# Altium footprint library BASIC Library.PCBLIB: 464 footprints (part 19 of 30)
Each footprint in its own frame and in the unit in brackets; x right, y up, seen from the top. Pads: shape width x height; smd on the part's side, far side on the other; paste and mask are expansions set on the pad; w line width, h text height; cw(c..) or ccw(c..) is an arc to the next point about the centre after c.
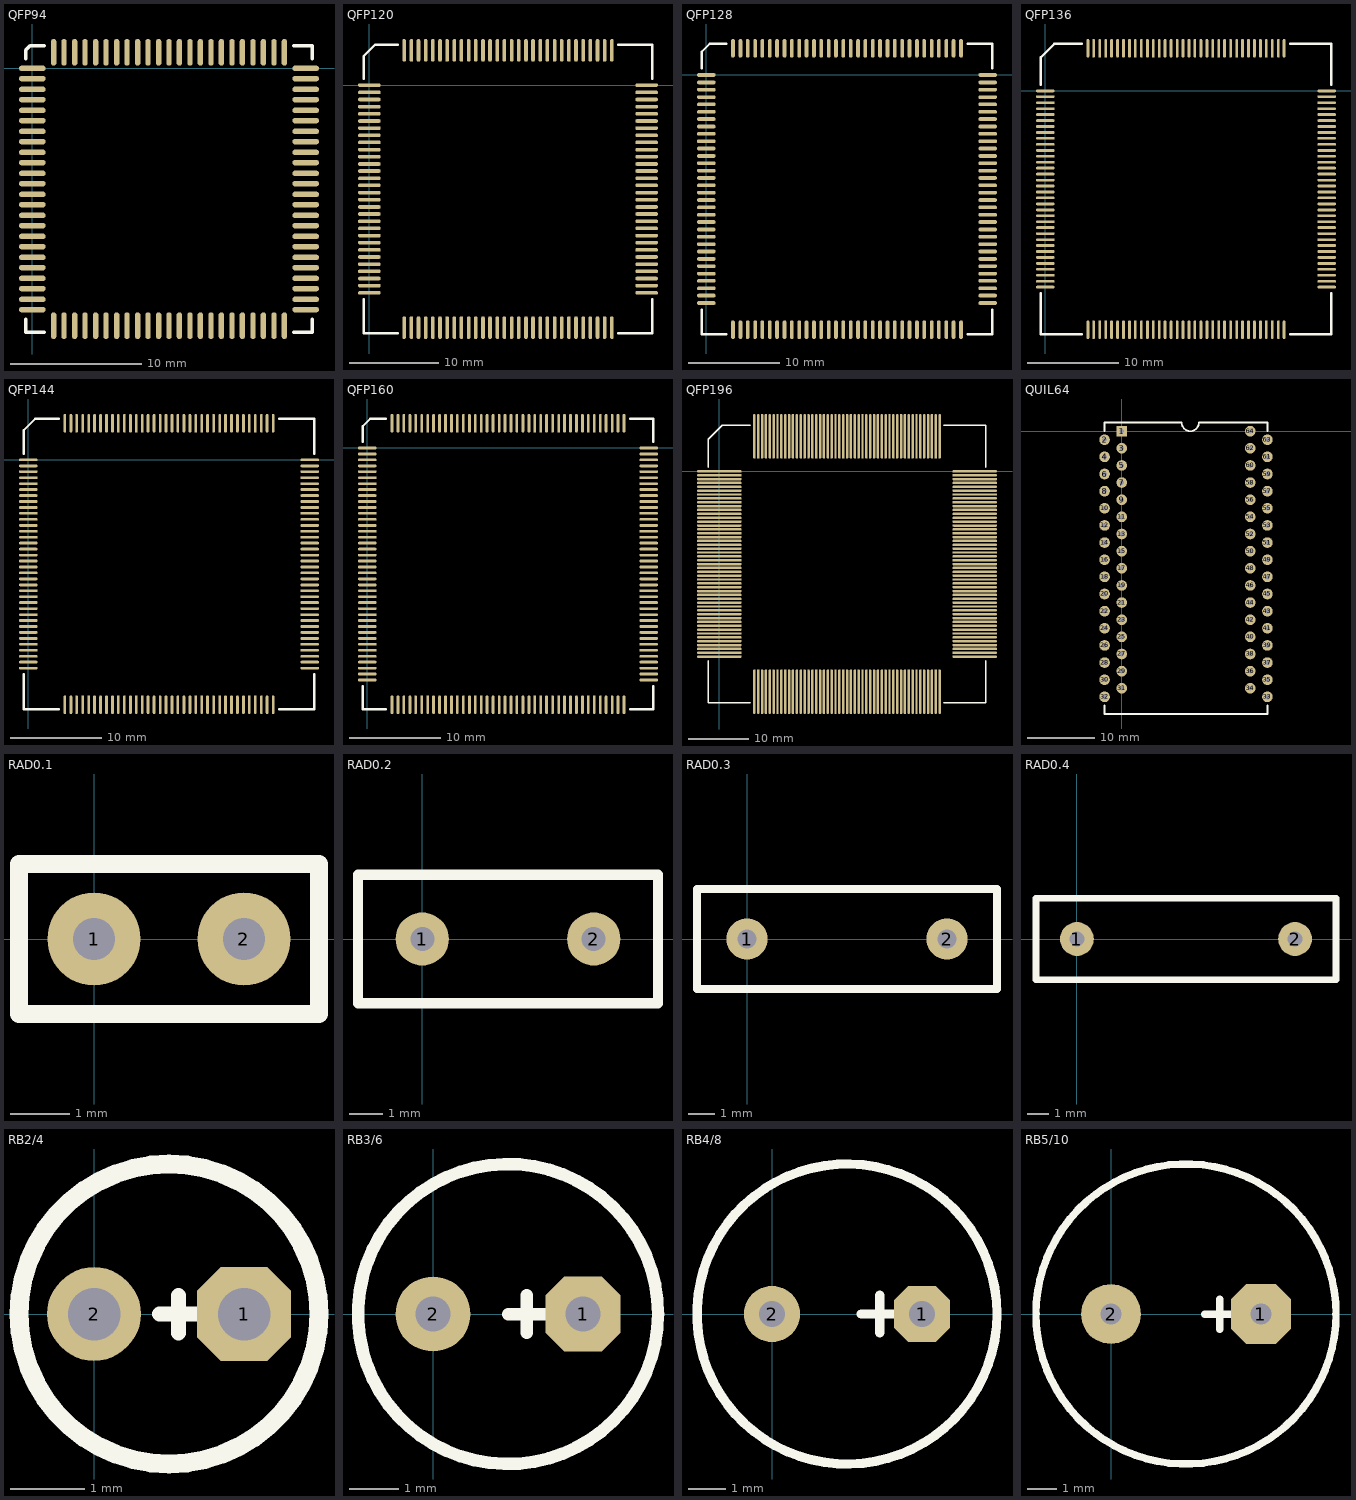
[diagram p18: the footprints below, top view; thin cyan lines are the x and y axes]

## QFP94 [mil]
pads (94):
  oval 80x16 smd: 1(0,0) 2(0,-31) 3(0,-63) 4(0,-94) 5(0,-126) 6(0,-157) 7(0,-189) 8(0,-220) 9(0,-252) 10(0,-283) 11(0,-315) 12(0,-346) 13(0,-378) 14(0,-409) 15(0,-441) 16(0,-472) 17(0,-504) 18(0,-535) 19(0,-567) 20(0,-598) 21(0,-630) 22(0,-661) 23(0,-693) 24(0,-724) 48(820,-724) 49(820,-693) 50(820,-661) 51(820,-630) 52(820,-598) 53(820,-567) 54(820,-535) 55(820,-504) 56(820,-472) 57(820,-441) 58(820,-409) 59(820,-378) 60(820,-346) 61(820,-315) 62(820,-283) 63(820,-252) 64(820,-220) 65(820,-189) 66(820,-157) 67(820,-126) 68(820,-94) 69(820,-63) 70(820,-31) 71(820,0)
  oval 16x80 smd: 25(64,-772) 26(95,-772) 27(127,-772) 28(158,-772) 29(190,-772) 30(221,-772) 31(253,-772) 32(284,-772) 33(316,-772) 34(347,-772) 35(379,-772) 36(410,-772) 37(441,-772) 38(473,-772) 39(504,-772) 40(536,-772) 41(567,-772) 42(599,-772) 43(630,-772) 44(662,-772) 45(693,-772) 46(725,-772) 47(756,-772) 72(756,48) 73(725,48) 74(693,48) 75(662,48) 76(630,48) 77(599,48) 78(567,48) 79(536,48) 80(504,48) 81(473,48) 82(441,48) 83(410,48) 84(379,48) 85(347,48) 86(316,48) 87(284,48) 88(253,48) 89(221,48) 90(190,48) 91(158,48) 92(127,48) 93(95,48) 94(64,48)
TopOverlay:
  lines w10: -20,-752 -20,-792 36,-792 ; -20,28 -20,55 -7,68 36,68 ; 784,-792 840,-792 840,-752 ; 784,68 840,68 840,28

## QFP120 [mil]
pads (120):
  oval 100x16 smd: 1(0,0) 2(0,-32) 3(0,-63) 4(0,-95) 5(0,-126) 6(0,-158) 7(0,-189) 8(0,-221) 9(0,-252) 10(0,-284) 11(0,-315) 12(0,-347) 13(0,-378) 14(0,-410) 15(0,-441) 16(0,-473) 17(0,-504) 18(0,-536) 19(0,-567) 20(0,-599) 21(0,-630) 22(0,-662) 23(0,-693) 24(0,-725) 25(0,-756) 26(0,-788) 27(0,-819) 28(0,-851) 29(0,-882) 30(0,-914) 61(1220,-914) 62(1220,-882) 63(1220,-851) 64(1220,-819) 65(1220,-788) 66(1220,-756) 67(1220,-725) 68(1220,-693) 69(1220,-662) 70(1220,-630) 71(1220,-599) 72(1220,-567) 73(1220,-536) 74(1220,-504) 75(1220,-473) 76(1220,-441) 77(1220,-410) 78(1220,-378) 79(1220,-347) 80(1220,-315) 81(1220,-284) 82(1220,-252) 83(1220,-221) 84(1220,-189) 85(1220,-158) 86(1220,-126) 87(1220,-95) 88(1220,-63) 89(1220,-32) 90(1220,0)
  oval 16x100 smd: 31(153,-1067) 32(185,-1067) 33(216,-1067) 34(248,-1067) 35(279,-1067) 36(311,-1067) 37(342,-1067) 38(374,-1067) 39(405,-1067) 40(437,-1067) 41(468,-1067) 42(500,-1067) 43(531,-1067) 44(563,-1067) 45(594,-1067) 46(626,-1067) 47(657,-1067) 48(689,-1067) 49(720,-1067) 50(752,-1067) 51(783,-1067) 52(815,-1067) 53(846,-1067) 54(878,-1067) 55(909,-1067) 56(941,-1067) 57(972,-1067) 58(1004,-1067) 59(1035,-1067) 60(1067,-1067) 91(1067,153) 92(1035,153) 93(1004,153) 94(972,153) 95(941,153) 96(909,153) 97(878,153) 98(846,153) 99(815,153) 100(783,153) 101(752,153) 102(720,153) 103(689,153) 104(657,153) 105(626,153) 106(594,153) 107(563,153) 108(531,153) 109(500,153) 110(468,153) 111(437,153) 112(405,153) 113(374,153) 114(342,153) 115(311,153) 116(279,153) 117(248,153) 118(216,153) 119(185,153) 120(153,153)
TopOverlay:
  lines w10: -25,-942 -25,-1092 125,-1092 ; -25,28 -25,128 25,178 125,178 ; 1095,-1092 1245,-1092 1245,-942 ; 1095,178 1245,178 1245,28

## QFP128 [mil]
pads (128):
  oval 80x16 smd: 1(0,0) 2(0,-32) 3(0,-63) 4(0,-95) 5(0,-126) 6(0,-158) 7(0,-189) 8(0,-221) 9(0,-252) 10(0,-284) 11(0,-315) 12(0,-347) 13(0,-378) 14(0,-410) 15(0,-441) 16(0,-473) 17(0,-504) 18(0,-536) 19(0,-567) 20(0,-599) 21(0,-630) 22(0,-662) 23(0,-693) 24(0,-725) 25(0,-756) 26(0,-788) 27(0,-819) 28(0,-851) 29(0,-882) 30(0,-914) 31(0,-945) 32(0,-977) 65(1205,-977) 66(1205,-945) 67(1205,-914) 68(1205,-882) 69(1205,-851) 70(1205,-819) 71(1205,-788) 72(1205,-756) 73(1205,-725) 74(1205,-693) 75(1205,-662) 76(1205,-630) 77(1205,-599) 78(1205,-567) 79(1205,-536) 80(1205,-504) 81(1205,-473) 82(1205,-441) 83(1205,-410) 84(1205,-378) 85(1205,-347) 86(1205,-315) 87(1205,-284) 88(1205,-252) 89(1205,-221) 90(1205,-189) 91(1205,-158) 92(1205,-126) 93(1205,-95) 94(1205,-63) 95(1205,-32) 96(1205,0)
  oval 16x80 smd: 33(114,-1091) 34(146,-1091) 35(177,-1091) 36(209,-1091) 37(240,-1091) 38(272,-1091) 39(303,-1091) 40(335,-1091) 41(366,-1091) 42(398,-1091) 43(429,-1091) 44(461,-1091) 45(492,-1091) 46(524,-1091) 47(555,-1091) 48(587,-1091) 49(618,-1091) 50(650,-1091) 51(681,-1091) 52(713,-1091) 53(744,-1091) 54(776,-1091) 55(807,-1091) 56(839,-1091) 57(870,-1091) 58(902,-1091) 59(933,-1091) 60(965,-1091) 61(996,-1091) 62(1028,-1091) 63(1059,-1091) 64(1091,-1091) 97(1091,114) 98(1059,114) 99(1028,114) 100(996,114) 101(965,114) 102(933,114) 103(902,114) 104(870,114) 105(839,114) 106(807,114) 107(776,114) 108(744,114) 109(713,114) 110(681,114) 111(650,114) 112(618,114) 113(587,114) 114(555,114) 115(524,114) 116(492,114) 117(461,114) 118(429,114) 119(398,114) 120(366,114) 121(335,114) 122(303,114) 123(272,114) 124(240,114) 125(209,114) 126(177,114) 127(146,114) 128(114,114)
TopOverlay:
  lines w10: -20,-1005 -20,-1111 86,-1111 ; -20,28 -20,99 15,134 86,134 ; 1119,-1111 1225,-1111 1225,-1005 ; 1119,134 1225,134 1225,28

## QFP136 [mil]
pads (136):
  oval 80x12 smd: 1(0,0) 2(0,-25) 3(0,-51) 4(0,-77) 5(0,-102) 6(0,-128) 7(0,-153) 8(0,-179) 9(0,-204) 10(0,-230) 11(0,-256) 12(0,-281) 13(0,-307) 14(0,-332) 15(0,-358) 16(0,-384) 17(0,-409) 18(0,-435) 19(0,-460) 20(0,-486) 21(0,-512) 22(0,-537) 23(0,-563) 24(0,-588) 25(0,-614) 26(0,-640) 27(0,-665) 28(0,-691) 29(0,-716) 30(0,-742) 31(0,-767) 32(0,-793) 33(0,-819) 34(0,-844) 69(1210,-844) 70(1210,-819) 71(1210,-793) 72(1210,-767) 73(1210,-742) 74(1210,-716) 75(1210,-691) 76(1210,-665) 77(1210,-640) 78(1210,-614) 79(1210,-588) 80(1210,-563) 81(1210,-537) 82(1210,-512) 83(1210,-486) 84(1210,-460) 85(1210,-435) 86(1210,-409) 87(1210,-384) 88(1210,-358) 89(1210,-332) 90(1210,-307) 91(1210,-281) 92(1210,-256) 93(1210,-230) 94(1210,-204) 95(1210,-179) 96(1210,-153) 97(1210,-128) 98(1210,-102) 99(1210,-77) 100(1210,-51) 101(1210,-25) 102(1210,0)
  oval 12x80 smd: 35(183,-1027) 36(208,-1027) 37(234,-1027) 38(260,-1027) 39(285,-1027) 40(311,-1027) 41(336,-1027) 42(362,-1027) 43(387,-1027) 44(413,-1027) 45(439,-1027) 46(464,-1027) 47(490,-1027) 48(515,-1027) 49(541,-1027) 50(567,-1027) 51(592,-1027) 52(618,-1027) 53(643,-1027) 54(669,-1027) 55(695,-1027) 56(720,-1027) 57(746,-1027) 58(771,-1027) 59(797,-1027) 60(823,-1027) 61(848,-1027) 62(874,-1027) 63(899,-1027) 64(925,-1027) 65(950,-1027) 66(976,-1027) 67(1002,-1027) 68(1027,-1027) 103(1027,183) 104(1002,183) 105(976,183) 106(950,183) 107(925,183) 108(899,183) 109(874,183) 110(848,183) 111(823,183) 112(797,183) 113(771,183) 114(746,183) 115(720,183) 116(695,183) 117(669,183) 118(643,183) 119(618,183) 120(592,183) 121(567,183) 122(541,183) 123(515,183) 124(490,183) 125(464,183) 126(439,183) 127(413,183) 128(387,183) 129(362,183) 130(336,183) 131(311,183) 132(285,183) 133(260,183) 134(234,183) 135(208,183) 136(183,183)
TopOverlay:
  lines w10: -20,-870 -20,-1047 157,-1047 ; -20,26 -20,144 39,203 157,203 ; 1053,-1047 1230,-1047 1230,-870 ; 1053,203 1230,203 1230,26

## QFP144 [mil]
pads (144):
  oval 80x12 smd: 1(0,0) 2(0,-26) 3(0,-51) 4(0,-77) 5(0,-103) 6(0,-128) 7(0,-154) 8(0,-179) 9(0,-205) 10(0,-230) 11(0,-256) 12(0,-282) 13(0,-307) 14(0,-333) 15(0,-358) 16(0,-384) 17(0,-410) 18(0,-435) 19(0,-461) 20(0,-486) 21(0,-512) 22(0,-538) 23(0,-563) 24(0,-589) 25(0,-614) 26(0,-640) 27(0,-666) 28(0,-691) 29(0,-717) 30(0,-742) 31(0,-768) 32(0,-793) 33(0,-819) 34(0,-845) 35(0,-870) 36(0,-896) 73(1210,-896) 74(1210,-870) 75(1210,-845) 76(1210,-819) 77(1210,-793) 78(1210,-768) 79(1210,-742) 80(1210,-717) 81(1210,-691) 82(1210,-666) 83(1210,-640) 84(1210,-614) 85(1210,-589) 86(1210,-563) 87(1210,-538) 88(1210,-512) 89(1210,-486) 90(1210,-461) 91(1210,-435) 92(1210,-410) 93(1210,-384) 94(1210,-358) 95(1210,-333) 96(1210,-307) 97(1210,-282) 98(1210,-256) 99(1210,-230) 100(1210,-205) 101(1210,-179) 102(1210,-154) 103(1210,-128) 104(1210,-103) 105(1210,-77) 106(1210,-51) 107(1210,-26) 108(1210,0)
  oval 12x80 smd: 37(157,-1053) 38(183,-1053) 39(208,-1053) 40(234,-1053) 41(260,-1053) 42(285,-1053) 43(311,-1053) 44(336,-1053) 45(362,-1053) 46(387,-1053) 47(413,-1053) 48(439,-1053) 49(464,-1053) 50(490,-1053) 51(515,-1053) 52(541,-1053) 53(567,-1053) 54(592,-1053) 55(618,-1053) 56(643,-1053) 57(669,-1053) 58(695,-1053) 59(720,-1053) 60(746,-1053) 61(771,-1053) 62(797,-1053) 63(823,-1053) 64(848,-1053) 65(874,-1053) 66(899,-1053) 67(925,-1053) 68(950,-1053) 69(976,-1053) 70(1002,-1053) 71(1027,-1053) 72(1053,-1053) 109(1053,157) 110(1027,157) 111(1002,157) 112(976,157) 113(950,157) 114(925,157) 115(899,157) 116(874,157) 117(848,157) 118(823,157) 119(797,157) 120(771,157) 121(746,157) 122(720,157) 123(695,157) 124(669,157) 125(643,157) 126(618,157) 127(592,157) 128(567,157) 129(541,157) 130(515,157) 131(490,157) 132(464,157) 133(439,157) 134(413,157) 135(387,157) 136(362,157) 137(336,157) 138(311,157) 139(285,157) 140(260,157) 141(234,157) 142(208,157) 143(183,157) 144(157,157)
TopOverlay:
  lines w10: -20,-922 -20,-1073 131,-1073 ; -20,26 -20,127 30,177 131,177 ; 1079,-1073 1230,-1073 1230,-922 ; 1079,177 1230,177 1230,26

## QFP160 [mil]
pads (160):
  oval 80x12 smd: 1(0,0) 2(0,-26) 3(0,-51) 4(0,-77) 5(0,-102) 6(0,-128) 7(0,-154) 8(0,-179) 9(0,-205) 10(0,-230) 11(0,-256) 12(0,-281) 13(0,-307) 14(0,-333) 15(0,-358) 16(0,-384) 17(0,-409) 18(0,-435) 19(0,-461) 20(0,-486) 21(0,-512) 22(0,-537) 23(0,-563) 24(0,-589) 25(0,-614) 26(0,-640) 27(0,-665) 28(0,-691) 29(0,-717) 30(0,-742) 31(0,-768) 32(0,-793) 33(0,-819) 34(0,-844) 35(0,-870) 36(0,-896) 37(0,-921) 38(0,-947) 39(0,-972) 40(0,-998) 81(1210,-998) 82(1210,-972) 83(1210,-947) 84(1210,-921) 85(1210,-896) 86(1210,-870) 87(1210,-844) 88(1210,-819) 89(1210,-793) 90(1210,-768) 91(1210,-742) 92(1210,-717) 93(1210,-691) 94(1210,-665) 95(1210,-640) 96(1210,-614) 97(1210,-589) 98(1210,-563) 99(1210,-537) 100(1210,-512) 101(1210,-486) 102(1210,-461) 103(1210,-435) 104(1210,-409) 105(1210,-384) 106(1210,-358) 107(1210,-333) 108(1210,-307) 109(1210,-281) 110(1210,-256) 111(1210,-230) 112(1210,-205) 113(1210,-179) 114(1210,-154) 115(1210,-128) 116(1210,-102) 117(1210,-77) 118(1210,-51) 119(1210,-26) 120(1210,0)
  oval 12x80 smd: 41(106,-1104) 42(132,-1104) 43(157,-1104) 44(183,-1104) 45(208,-1104) 46(234,-1104) 47(260,-1104) 48(285,-1104) 49(311,-1104) 50(336,-1104) 51(362,-1104) 52(387,-1104) 53(413,-1104) 54(439,-1104) 55(464,-1104) 56(490,-1104) 57(515,-1104) 58(541,-1104) 59(567,-1104) 60(592,-1104) 61(618,-1104) 62(643,-1104) 63(669,-1104) 64(695,-1104) 65(720,-1104) 66(746,-1104) 67(771,-1104) 68(797,-1104) 69(823,-1104) 70(848,-1104) 71(874,-1104) 72(899,-1104) 73(925,-1104) 74(950,-1104) 75(976,-1104) 76(1002,-1104) 77(1027,-1104) 78(1053,-1104) 79(1078,-1104) 80(1104,-1104) 121(1104,106) 122(1078,106) 123(1053,106) 124(1027,106) 125(1002,106) 126(976,106) 127(950,106) 128(925,106) 129(899,106) 130(874,106) 131(848,106) 132(823,106) 133(797,106) 134(771,106) 135(746,106) 136(720,106) 137(695,106) 138(669,106) 139(643,106) 140(618,106) 141(592,106) 142(567,106) 143(541,106) 144(515,106) 145(490,106) 146(464,106) 147(439,106) 148(413,106) 149(387,106) 150(362,106) 151(336,106) 152(311,106) 153(285,106) 154(260,106) 155(234,106) 156(208,106) 157(183,106) 158(157,106) 159(132,106) 160(106,106)
TopOverlay:
  lines w10: -20,-1024 -20,-1124 80,-1124 ; -20,26 -20,93 13,126 80,126 ; 1130,-1124 1230,-1124 1230,-1024 ; 1130,126 1230,126 1230,26

## QFP196 [mil]
pads (196):
  oval 290x16 smd: 1(0,0) 2(0,-25) 3(0,-50) 4(0,-75) 5(0,-100) 6(0,-125) 7(0,-150) 8(0,-175) 9(0,-200) 10(0,-225) 11(0,-250) 12(0,-275) 13(0,-301) 14(0,-326) 15(0,-351) 16(0,-376) 17(0,-401) 18(0,-426) 19(0,-451) 20(0,-476) 21(0,-501) 22(0,-526) 23(0,-551) 24(0,-576) 25(0,-601) 26(0,-626) 27(0,-651) 28(0,-676) 29(0,-701) 30(0,-726) 31(0,-751) 32(0,-776) 33(0,-801) 34(0,-826) 35(0,-851) 36(0,-876) 37(0,-901) 38(0,-926) 39(0,-951) 40(0,-976) 41(0,-1001) 42(0,-1026) 43(0,-1051) 44(0,-1076) 45(0,-1101) 46(0,-1126) 47(0,-1151) 48(0,-1176) 49(0,-1201) 99(1655,-1201) 100(1655,-1176) 101(1655,-1151) 102(1655,-1126) 103(1655,-1101) 104(1655,-1076) 105(1655,-1051) 106(1655,-1026) 107(1655,-1001) 108(1655,-976) 109(1655,-951) 110(1655,-926) 111(1655,-901) 112(1655,-876) 113(1655,-851) 114(1655,-826) 115(1655,-801) 116(1655,-776) 117(1655,-751) 118(1655,-726) 119(1655,-701) 120(1655,-676) 121(1655,-651) 122(1655,-626) 123(1655,-601) 124(1655,-576) 125(1655,-551) 126(1655,-526) 127(1655,-501) 128(1655,-476) 129(1655,-451) 130(1655,-426) 131(1655,-401) 132(1655,-376) 133(1655,-351) 134(1655,-326) 135(1655,-301) 136(1655,-275) 137(1655,-250) 138(1655,-225) 139(1655,-200) 140(1655,-175) 141(1655,-150) 142(1655,-125) 143(1655,-100) 144(1655,-75) 145(1655,-50) 146(1655,-25) 147(1655,0)
  oval 16x290 smd: 50(227,-1428) 51(252,-1428) 52(277,-1428) 53(302,-1428) 54(327,-1428) 55(352,-1428) 56(377,-1428) 57(402,-1428) 58(427,-1428) 59(452,-1428) 60(477,-1428) 61(502,-1428) 62(528,-1428) 63(553,-1428) 64(578,-1428) 65(603,-1428) 66(628,-1428) 67(653,-1428) 68(678,-1428) 69(703,-1428) 70(728,-1428) 71(753,-1428) 72(778,-1428) 73(803,-1428) 74(828,-1428) 75(853,-1428) 76(878,-1428) 77(903,-1428) 78(928,-1428) 79(953,-1428) 80(978,-1428) 81(1003,-1428) 82(1028,-1428) 83(1053,-1428) 84(1078,-1428) 85(1103,-1428) 86(1128,-1428) 87(1153,-1428) 88(1178,-1428) 89(1203,-1428) 90(1228,-1428) 91(1253,-1428) 92(1278,-1428) 93(1303,-1428) 94(1328,-1428) 95(1353,-1428) 96(1378,-1428) 97(1403,-1428) 98(1428,-1428) 148(1428,227) 149(1403,227) 150(1378,227) 151(1353,227) 152(1328,227) 153(1303,227) 154(1278,227) 155(1253,227) 156(1228,227) 157(1203,227) 158(1178,227) 159(1153,227) 160(1128,227) 161(1103,227) 162(1078,227) 163(1053,227) 164(1028,227) 165(1003,227) 166(978,227) 167(953,227) 168(928,227) 169(903,227) 170(878,227) 171(853,227) 172(828,227) 173(803,227) 174(778,227) 175(753,227) 176(728,227) 177(703,227) 178(678,227) 179(653,227) 180(628,227) 181(603,227) 182(578,227) 183(553,227) 184(528,227) 185(502,227) 186(477,227) 187(452,227) 188(427,227) 189(402,227) 190(377,227) 191(352,227) 192(327,227) 193(302,227) 194(277,227) 195(252,227) 196(227,227)
TopOverlay:
  lines w10: -72,-1228 -72,-1500 200,-1500 ; -72,27 -72,209 18,299 200,299 ; 1455,-1500 1727,-1500 1727,-1228 ; 1455,299 1727,299 1727,27

## QUIL64 [mil]
pads (64):
  rect 62x62 hole 28: 1(0,0)
  round 62 hole 28: 2(-100,-50) 3(0,-100) 4(-100,-150) 5(0,-200) 6(-100,-250) 7(0,-300) 8(-100,-350) 9(0,-400) 10(-100,-450) 11(0,-500) 12(-100,-550) 13(0,-600) 14(-100,-650) 15(0,-700) 16(-100,-750) 17(0,-800) 18(-100,-850) 19(0,-900) 20(-100,-950) 21(0,-1000) 22(-100,-1050) 23(0,-1100) 24(-100,-1150) 25(0,-1200) 26(-100,-1250) 27(0,-1300) 28(-100,-1350) 29(0,-1400) 30(-100,-1450) 31(0,-1500) 32(-100,-1550) 33(850,-1550) 34(750,-1500) 35(850,-1450) 36(750,-1400) 37(850,-1350) 38(750,-1300) 39(850,-1250) 40(750,-1200) 41(850,-1150) 42(750,-1100) 43(850,-1050) 44(750,-1000) 45(850,-950) 46(750,-900) 47(850,-850) 48(750,-800) 49(850,-750) 50(750,-700) 51(850,-650) 52(750,-600) 53(850,-550) 54(750,-500) 55(850,-450) 56(750,-400) 57(850,-350) 58(750,-300) 59(850,-250) 60(750,-200) 61(850,-150) 62(750,-100) 63(850,-50) 64(750,0)
TopOverlay:
  lines w10: 350,50 ccw(c400,50) 450,50
  lines w12: -100,-1600 -100,-1650 850,-1650 850,-1600 ; -100,0 -100,50 350,50 ; 450,50 850,50 850,0

## RAD0.1 [mil]
pads (2):
  round 62 hole 28: 1(0,0) 2(100,0)
TopOverlay:
  lines w12: -50,-50 150,-50 150,50 -50,50 -50,-50

## RAD0.2 [mil]
pads (2):
  round 62 hole 28: 1(0,0) 2(200,0)
TopOverlay:
  lines w12: -75,-75 -75,75 275,75 275,-75 -75,-75

## RAD0.3 [mil]
pads (2):
  round 62 hole 28: 1(0,0) 2(300,0)
TopOverlay:
  lines w12: -75,-75 -75,75 375,75 375,-75 -75,-75

## RAD0.4 [mil]
pads (2):
  round 62 hole 28: 1(0,0) 2(400,0)
TopOverlay:
  lines w12: -75,-75 -75,75 475,75 475,-75 -75,-75

## RB2/4 [mil]
pads (2):
  oct 50x50 hole 28: 1(80,0)
  round 50 hole 28: 2(0,0)
TopOverlay:
  circle w10: c40,0 r80
  lines w8: 35,0 55,0 ; 45,-10 45,10

## RB3/6 [mil]
pads (2):
  oct 60x60 hole 28: 1(120,0)
  round 60 hole 28: 2(0,0)
TopOverlay:
  circle w10: c60,0 r120
  lines w10: 60,0 90,0 ; 75,-15 75,15

## RB4/8 [mil]
pads (2):
  oct 60x60 hole 28: 1(160,0)
  round 60 hole 28: 2(0,0)
TopOverlay:
  circle w10: c80,0 r160
  lines w10: 95,0 135,0 ; 115,-20 115,20

## RB5/10 [mil]
pads (2):
  oct 80x80 hole 28: 1(200,0)
  round 80 hole 28: 2(0,0)
TopOverlay:
  circle w10: c100,0 r200
  lines w10: 125,0 165,0 ; 145,-20 145,20